# EAGLE library part USBAFEMALE (library WearableMetronome)
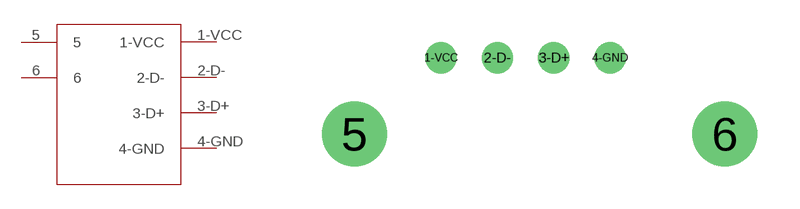
[diagram p1: symbol with the pads of USBAFEMALE; footprint USBAFEMALE]

Designator prefix -

## USBAFEMALE  [USBAFEMALE]
1-VCC  1-VCC
2-D-  2-D-
3-D+  3-D+
4-GND  4-GND
5  5
6  6

## Footprint USBAFEMALE (pad centres in mm)
drill 0.6 pad 0.92: 1-VCC 0,0; 2-D- 2,0; 3-D+ 4,0; 4-GND 6,0
drill 1 pad 2.3: 5 -3.07,-2.71; 6 10.07,-2.71